# Altium schematic symbol library MCU ICs.SchLib: 13 symbols
Pins are listed as number, name and electrical type; pins without a type are passive.

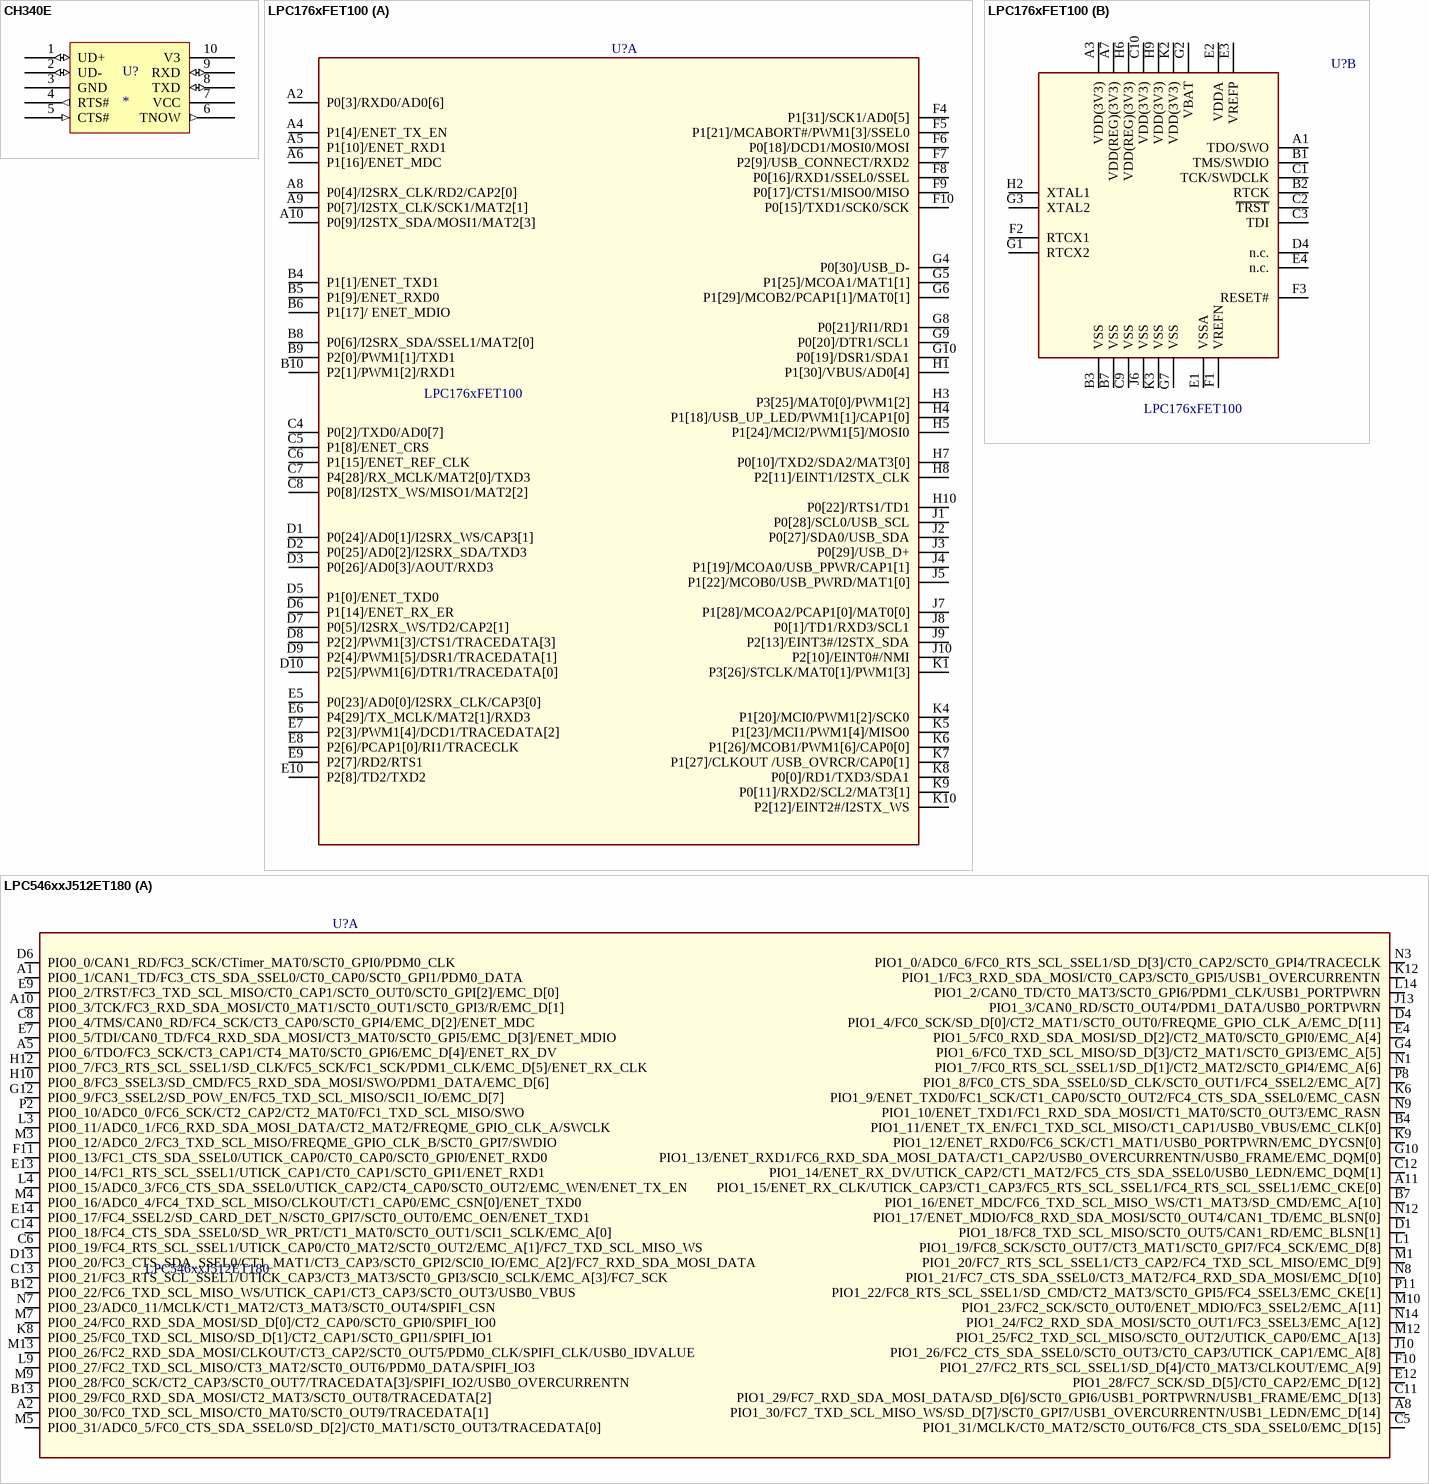
[diagram p0: symbols CH340E to LPC546xxJ512ET180]

## CH340E
designator U?
USB to Serial Port Chip CH340
footprint MSOP-10
pins: 1 UD+ (io), 2 UD- (io), 3 GND (power), 4 RTS# (out), 5 CTS# (in), 6 TNOW (out) "CH340T/E/X/B: Ongoing data transmission", 7 VCC (power), 8 TXD (io), 9 RXD (io), 10 V3 (power) "Connect to VCC when VCC is 3V3, connect"

## LPC176xFET100
designator U?
LPC176x , TFBGA-100 , Cortex-M3 , 256KB Flash; SWAP_INFO: (S1+S2); SPLIT_INST: TRUE
footprint TFBGA-100_9X9MM
part A pins: A2 P0[3]/RXD0/AD0[6], A4 P1[4]/ENET_TX_EN, A5 P1[10]/ENET_RXD1, A6 P1[16]/ENET_MDC, A8 P0[4]/I2SRX_CLK/RD2/CAP2[0], A9 P0[7]/I2STX_CLK/SCK1/MAT2[1], A10 P0[9]/I2STX_SDA/MOSI1/MAT2[3], B4 P1[1]/ENET_TXD1, B5 P1[9]/ENET_RXD0, B6 P1[17]/ ENET_MDIO, B8 P0[6]/I2SRX_SDA/SSEL1/MAT2[0], B9 P2[0]/PWM1[1]/TXD1, B10 P2[1]/PWM1[2]/RXD1, C4 P0[2]/TXD0/AD0[7], C5 P1[8]/ENET_CRS, C6 P1[15]/ENET_REF_CLK, C7 P4[28]/RX_MCLK/MAT2[0]/TXD3, C8 P0[8]/I2STX_WS/MISO1/MAT2[2], D1 P0[24]/AD0[1]/I2SRX_WS/CAP3[1], D2 P0[25]/AD0[2]/I2SRX_SDA/TXD3, D3 P0[26]/AD0[3]/AOUT/RXD3, D5 P1[0]/ENET_TXD0, D6 P1[14]/ENET_RX_ER, D7 P0[5]/I2SRX_WS/TD2/CAP2[1], D8 P2[2]/PWM1[3]/CTS1/TRACEDATA[3], D9 P2[4]/PWM1[5]/DSR1/TRACEDATA[1], D10 P2[5]/PWM1[6]/DTR1/TRACEDATA[0], E5 P0[23]/AD0[0]/I2SRX_CLK/CAP3[0], E6 P4[29]/TX_MCLK/MAT2[1]/RXD3, E7 P2[3]/PWM1[4]/DCD1/TRACEDATA[2], E8 P2[6]/PCAP1[0]/RI1/TRACECLK, E9 P2[7]/RD2/RTS1, E10 P2[8]/TD2/TXD2, F4 P1[31]/SCK1/AD0[5], F5 P1[21]/MCABORT#/PWM1[3]/SSEL0, F6 P0[18]/DCD1/MOSI0/MOSI, F7 P2[9]/USB_CONNECT/RXD2, F8 P0[16]/RXD1/SSEL0/SSEL, F9 P0[17]/CTS1/MISO0/MISO, F10 P0[15]/TXD1/SCK0/SCK, G4 P0[30]/USB_D-, G5 P1[25]/MCOA1/MAT1[1], G6 P1[29]/MCOB2/PCAP1[1]/MAT0[1], G8 P0[21]/RI1/RD1, G9 P0[20]/DTR1/SCL1, G10 P0[19]/DSR1/SDA1, H1 P1[30]/VBUS/AD0[4], H3 P3[25]/MAT0[0]/PWM1[2], H4 P1[18]/USB_UP_LED/PWM1[1]/CAP1[0], H5 P1[24]/MCI2/PWM1[5]/MOSI0, H7 P0[10]/TXD2/SDA2/MAT3[0], H8 P2[11]/EINT1/I2STX_CLK, H10 P0[22]/RTS1/TD1, J1 P0[28]/SCL0/USB_SCL, J2 P0[27]/SDA0/USB_SDA, J3 P0[29]/USB_D+, J4 P1[19]/MCOA0/USB_PPWR/CAP1[1], J5 P1[22]/MCOB0/USB_PWRD/MAT1[0], J7 P1[28]/MCOA2/PCAP1[0]/MAT0[0], J8 P0[1]/TD1/RXD3/SCL1, J9 P2[13]/EINT3#/I2STX_SDA, J10 P2[10]/EINT0#/NMI, K1 P3[26]/STCLK/MAT0[1]/PWM1[3], K4 P1[20]/MCI0/PWM1[2]/SCK0, K5 P1[23]/MCI1/PWM1[4]/MISO0, K6 P1[26]/MCOB1/PWM1[6]/CAP0[0], K7 P1[27]/CLKOUT /USB_OVRCR/CAP0[1], K8 P0[0]/RD1/TXD3/SDA1, K9 P0[11]/RXD2/SCL2/MAT3[1], K10 P2[12]/EINT2#/I2STX_WS
part B pins: A1 TDO/SWO, A3 VDD(3V3), A7 VDD(REG)(3V3), B1 TMS/SWDIO, B2 RTCK, B3 VSS, B7 VSS, C1 TCK/SWDCLK, C2 ~{TRST}, C3 TDI, C9 VSS, C10 VDD(3V3), D4 n.c., E1 VSSA, E2 VDDA, E3 VREFP, E4 n.c., F1 VREFN, F2 RTCX1, F3 RESET#, G1 RTCX2, G2 VBAT, G3 XTAL2, G7 VSS, H2 XTAL1, H6 VDD(REG)(3V3), H9 VDD(3V3), J6 VSS, K2 VDD(3V3), K3 VSS

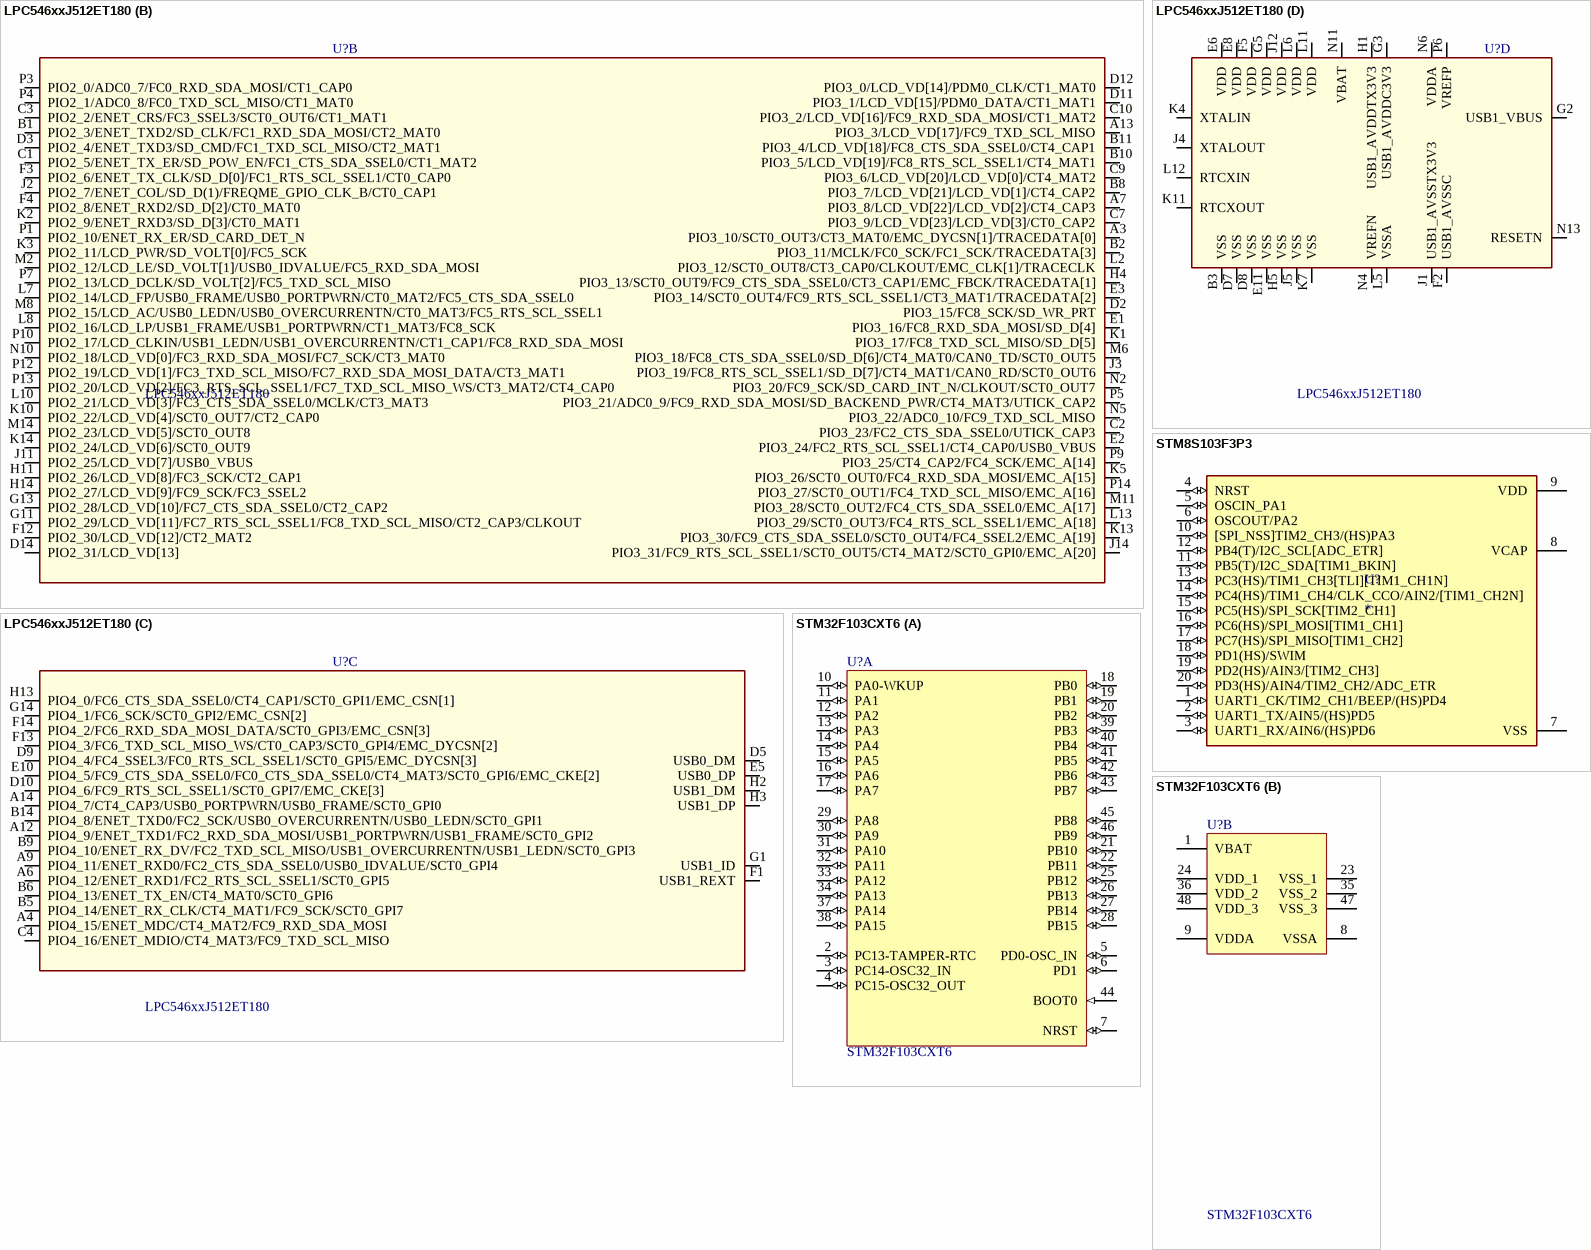
[diagram p1: symbols LPC546xxJ512ET180 to STM32F103CXT6]

## LPC546xxJ512ET180
designator U?
LPC546xx , TFBGA-180 , Cortex-M4 , 512KB Flash , LCD Controller , EMC; SWAP_INFO: (S1+S2); SPLIT_INST: TRUE
footprint TFBGA180_12X12_NXP
part A pins: A1 PIO0_1/CAN1_TD/FC3_CTS_SDA_SSEL0/CT0_CAP0/SCT0_GPI1/PDM0_DATA, A2 PIO0_30/FC0_TXD_SCL_MISO/CT0_MAT0/SCT0_OUT9/TRACEDATA[1], A5 PIO0_6/TDO/FC3_SCK/CT3_CAP1/CT4_MAT0/SCT0_GPI6/EMC_D[4]/ENET_RX_DV, A8 PIO1_30/FC7_TXD_SCL_MISO_WS/SD_D[7]/SCT0_GPI7/USB1_OVERCURRENTN/USB1_LEDN/EMC_D[14], A10 PIO0_3/TCK/FC3_RXD_SDA_MOSI/CT0_MAT1/SCT0_OUT1/SCT0_GPI3/R/EMC_D[1], A11 PIO1_15/ENET_RX_CLK/UTICK_CAP3/CT1_CAP3/FC5_RTS_SCL_SSEL1/FC4_RTS_SCL_SSEL1/EMC_CKE[0], B4 PIO1_11/ENET_TX_EN/FC1_TXD_SCL_MISO/CT1_CAP1/USB0_VBUS/EMC_CLK[0], B7 PIO1_16/ENET_MDC/FC6_TXD_SCL_MISO_WS/CT1_MAT3/SD_CMD/EMC_A[10], B12 PIO0_22/FC6_TXD_SCL_MISO_WS/UTICK_CAP1/CT3_CAP3/SCT0_OUT3/USB0_VBUS, B13 PIO0_29/FC0_RXD_SDA_MOSI/CT2_MAT3/SCT0_OUT8/TRACEDATA[2], C5 PIO1_31/MCLK/CT0_MAT2/SCT0_OUT6/FC8_CTS_SDA_SSEL0/EMC_D[15], C6 PIO0_19/FC4_RTS_SCL_SSEL1/UTICK_CAP0/CT0_MAT2/SCT0_OUT2/EMC_A[1]/FC7_TXD_SCL_MISO_WS, C8 PIO0_4/TMS/CAN0_RD/FC4_SCK/CT3_CAP0/SCT0_GPI4/EMC_D[2]/ENET_MDC, C11 PIO1_29/FC7_RXD_SDA_MOSI_DATA/SD_D[6]/SCT0_GPI6/USB1_PORTPWRN/USB1_FRAME/EMC_D[13], C12 PIO1_14/ENET_RX_DV/UTICK_CAP2/CT1_MAT2/FC5_CTS_SDA_SSEL0/USB0_LEDN/EMC_DQM[1], C13 PIO0_21/FC3_RTS_SCL_SSEL1/UTICK_CAP3/CT3_MAT3/SCT0_GPI3/SCI0_SCLK/EMC_A[3]/FC7_SCK, C14 PIO0_18/FC4_CTS_SDA_SSEL0/SD_WR_PRT/CT1_MAT0/SCT0_OUT1/SCI1_SCLK/EMC_A[0], D1 PIO1_18/FC8_TXD_SCL_MISO/SCT0_OUT5/CAN1_RD/EMC_BLSN[1], D4 PIO1_4/FC0_SCK/SD_D[0]/CT2_MAT1/SCT0_OUT0/FREQME_GPIO_CLK_A/EMC_D[11], D6 PIO0_0/CAN1_RD/FC3_SCK/CTimer_MAT0/SCT0_GPI0/PDM0_CLK, D13 PIO0_20/FC3_CTS_SDA_SSEL0/CT1_MAT1/CT3_CAP3/SCT0_GPI2/SCI0_IO/EMC_A[2]/FC7_RXD_SDA_MOSI_DATA, E4 PIO1_5/FC0_RXD_SDA_MOSI/SD_D[2]/CT2_MAT0/SCT0_GPI0/EMC_A[4], E7 PIO0_5/TDI/CAN0_TD/FC4_RXD_SDA_MOSI/CT3_MAT0/SCT0_GPI5/EMC_D[3]/ENET_MDIO, E9 PIO0_2/TRST/FC3_TXD_SCL_MISO/CT0_CAP1/SCT0_OUT0/SCT0_GPI[2]/EMC_D[0], E12 PIO1_28/FC7_SCK/SD_D[5]/CT0_CAP2/EMC_D[12], E13 PIO0_14/FC1_RTS_SCL_SSEL1/UTICK_CAP1/CT0_CAP1/SCT0_GPI1/ENET_RXD1, E14 PIO0_17/FC4_SSEL2/SD_CARD_DET_N/SCT0_GPI7/SCT0_OUT0/EMC_OEN/ENET_TXD1, F10 PIO1_27/FC2_RTS_SCL_SSEL1/SD_D[4]/CT0_MAT3/CLKOUT/EMC_A[9], F11 PIO0_13/FC1_CTS_SDA_SSEL0/UTICK_CAP0/CT0_CAP0/SCT0_GPI0/ENET_RXD0, G4 PIO1_6/FC0_TXD_SCL_MISO/SD_D[3]/CT2_MAT1/SCT0_GPI3/EMC_A[5], G10 PIO1_13/ENET_RXD1/FC6_RXD_SDA_MOSI_DATA/CT1_CAP2/USB0_OVERCURRENTN/USB0_FRAME/EMC_DQM[0], G12 PIO0_9/FC3_SSEL2/SD_POW_EN/FC5_TXD_SCL_MISO/SCI1_IO/EMC_D[7], H10 PIO0_8/FC3_SSEL3/SD_CMD/FC5_RXD_SDA_MOSI/SWO/PDM1_DATA/EMC_D[6], H12 PIO0_7/FC3_RTS_SCL_SSEL1/SD_CLK/FC5_SCK/FC1_SCK/PDM1_CLK/EMC_D[5]/ENET_RX_CLK, J10 PIO1_26/FC2_CTS_SDA_SSEL0/SCT0_OUT3/CT0_CAP3/UTICK_CAP1/EMC_A[8], J13 PIO1_3/CAN0_RD/SCT0_OUT4/PDM1_DATA/USB0_PORTPWRN, K6 PIO1_9/ENET_TXD0/FC1_SCK/CT1_CAP0/SCT0_OUT2/FC4_CTS_SDA_SSEL0/EMC_CASN, K8 PIO0_25/FC0_TXD_SCL_MISO/SD_D[1]/CT2_CAP1/SCT0_GPI1/SPIFI_IO1, K9 PIO1_12/ENET_RXD0/FC6_SCK/CT1_MAT1/USB0_PORTPWRN/EMC_DYCSN[0], K12 PIO1_1/FC3_RXD_SDA_MOSI/CT0_CAP3/SCT0_GPI5/USB1_OVERCURRENTN, L1 PIO1_19/FC8_SCK/SCT0_OUT7/CT3_MAT1/SCT0_GPI7/FC4_SCK/EMC_D[8], L3 PIO0_11/ADC0_1/FC6_RXD_SDA_MOSI_DATA/CT2_MAT2/FREQME_GPIO_CLK_A/SWCLK, L4 PIO0_15/ADC0_3/FC6_CTS_SDA_SSEL0/UTICK_CAP2/CT4_CAP0/SCT0_OUT2/EMC_WEN/ENET_TX_EN, L9 PIO0_27/FC2_TXD_SCL_MISO/CT3_MAT2/SCT0_OUT6/PDM0_DATA/SPIFI_IO3, L14 PIO1_2/CAN0_TD/CT0_MAT3/SCT0_GPI6/PDM1_CLK/USB1_PORTPWRN, M1 PIO1_20/FC7_RTS_SCL_SSEL1/CT3_CAP2/FC4_TXD_SCL_MISO/EMC_D[9], M3 PIO0_12/ADC0_2/FC3_TXD_SCL_MISO/FREQME_GPIO_CLK_B/SCT0_GPI7/SWDIO, M4 PIO0_16/ADC0_4/FC4_TXD_SCL_MISO/CLKOUT/CT1_CAP0/EMC_CSN[0]/ENET_TXD0, M5 PIO0_31/ADC0_5/FC0_CTS_SDA_SSEL0/SD_D[2]/CT0_MAT1/SCT0_OUT3/TRACEDATA[0], M7 PIO0_24/FC0_RXD_SDA_MOSI/SD_D[0]/CT2_CAP0/SCT0_GPI0/SPIFI_IO0, M9 PIO0_28/FC0_SCK/CT2_CAP3/SCT0_OUT7/TRACEDATA[3]/SPIFI_IO2/USB0_OVERCURRENTN, M10 PIO1_23/FC2_SCK/SCT0_OUT0/ENET_MDIO/FC3_SSEL2/EMC_A[11], M12 PIO1_25/FC2_TXD_SCL_MISO/SCT0_OUT2/UTICK_CAP0/EMC_A[13], M13 PIO0_26/FC2_RXD_SDA_MOSI/CLKOUT/CT3_CAP2/SCT0_OUT5/PDM0_CLK/SPIFI_CLK/USB0_IDVALUE, N1 PIO1_7/FC0_RTS_SCL_SSEL1/SD_D[1]/CT2_MAT2/SCT0_GPI4/EMC_A[6], N3 PIO1_0/ADC0_6/FC0_RTS_SCL_SSEL1/SD_D[3]/CT0_CAP2/SCT0_GPI4/TRACECLK, N7 PIO0_23/ADC0_11/MCLK/CT1_MAT2/CT3_MAT3/SCT0_OUT4/SPIFI_CSN, N8 PIO1_21/FC7_CTS_SDA_SSEL0/CT3_MAT2/FC4_RXD_SDA_MOSI/EMC_D[10], N9 PIO1_10/ENET_TXD1/FC1_RXD_SDA_MOSI/CT1_MAT0/SCT0_OUT3/EMC_RASN, N12 PIO1_17/ENET_MDIO/FC8_RXD_SDA_MOSI/SCT0_OUT4/CAN1_TD/EMC_BLSN[0], N14 PIO1_24/FC2_RXD_SDA_MOSI/SCT0_OUT1/FC3_SSEL3/EMC_A[12], P2 PIO0_10/ADC0_0/FC6_SCK/CT2_CAP2/CT2_MAT0/FC1_TXD_SCL_MISO/SWO, P8 PIO1_8/FC0_CTS_SDA_SSEL0/SD_CLK/SCT0_OUT1/FC4_SSEL2/EMC_A[7], P11 PIO1_22/FC8_RTS_SCL_SSEL1/SD_CMD/CT2_MAT3/SCT0_GPI5/FC4_SSEL3/EMC_CKE[1]
part B pins: A3 PIO3_10/SCT0_OUT3/CT3_MAT0/EMC_DYCSN[1]/TRACEDATA[0], A7 PIO3_8/LCD_VD[22]/LCD_VD[2]/CT4_CAP3, A13 PIO3_3/LCD_VD[17]/FC9_TXD_SCL_MISO, B1 PIO2_3/ENET_TXD2/SD_CLK/FC1_RXD_SDA_MOSI/CT2_MAT0, B2 PIO3_11/MCLK/FC0_SCK/FC1_SCK/TRACEDATA[3], B8 PIO3_7/LCD_VD[21]/LCD_VD[1]/CT4_CAP2, B10 PIO3_5/LCD_VD[19]/FC8_RTS_SCL_SSEL1/CT4_MAT1, B11 PIO3_4/LCD_VD[18]/FC8_CTS_SDA_SSEL0/CT4_CAP1, C1 PIO2_5/ENET_TX_ER/SD_POW_EN/FC1_CTS_SDA_SSEL0/CT1_MAT2, C2 PIO3_23/FC2_CTS_SDA_SSEL0/UTICK_CAP3, C3 PIO2_2/ENET_CRS/FC3_SSEL3/SCT0_OUT6/CT1_MAT1, C7 PIO3_9/LCD_VD[23]/LCD_VD[3]/CT0_CAP2, C9 PIO3_6/LCD_VD[20]/LCD_VD[0]/CT4_MAT2, C10 PIO3_2/LCD_VD[16]/FC9_RXD_SDA_MOSI/CT1_MAT2, D2 PIO3_15/FC8_SCK/SD_WR_PRT, D3 PIO2_4/ENET_TXD3/SD_CMD/FC1_TXD_SCL_MISO/CT2_MAT1, D11 PIO3_1/LCD_VD[15]/PDM0_DATA/CT1_MAT1, D12 PIO3_0/LCD_VD[14]/PDM0_CLK/CT1_MAT0, D14 PIO2_31/LCD_VD[13], E1 PIO3_16/FC8_RXD_SDA_MOSI/SD_D[4], E2 PIO3_24/FC2_RTS_SCL_SSEL1/CT4_CAP0/USB0_VBUS, E3 PIO3_14/SCT0_OUT4/FC9_RTS_SCL_SSEL1/CT3_MAT1/TRACEDATA[2], F3 PIO2_6/ENET_TX_CLK/SD_D[0]/FC1_RTS_SCL_SSEL1/CT0_CAP0, F4 PIO2_8/ENET_RXD2/SD_D[2]/CT0_MAT0, F12 PIO2_30/LCD_VD[12]/CT2_MAT2, G11 PIO2_29/LCD_VD[11]/FC7_RTS_SCL_SSEL1/FC8_TXD_SCL_MISO/CT2_CAP3/CLKOUT, G13 PIO2_28/LCD_VD[10]/FC7_CTS_SDA_SSEL0/CT2_CAP2, H4 PIO3_13/SCT0_OUT9/FC9_CTS_SDA_SSEL0/CT3_CAP1/EMC_FBCK/TRACEDATA[1], H11 PIO2_26/LCD_VD[8]/FC3_SCK/CT2_CAP1, H14 PIO2_27/LCD_VD[9]/FC9_SCK/FC3_SSEL2, J2 PIO2_7/ENET_COL/SD_D(1)/FREQME_GPIO_CLK_B/CT0_CAP1, J3 PIO3_19/FC8_RTS_SCL_SSEL1/SD_D[7]/CT4_MAT1/CAN0_RD/SCT0_OUT6, J11 PIO2_25/LCD_VD[7]/USB0_VBUS, J14 PIO3_31/FC9_RTS_SCL_SSEL1/SCT0_OUT5/CT4_MAT2/SCT0_GPI0/EMC_A[20], K1 PIO3_17/FC8_TXD_SCL_MISO/SD_D[5], K2 PIO2_9/ENET_RXD3/SD_D[3]/CT0_MAT1, K3 PIO2_11/LCD_PWR/SD_VOLT[0]/FC5_SCK, K5 PIO3_26/SCT0_OUT0/FC4_RXD_SDA_MOSI/EMC_A[15], K10 PIO2_22/LCD_VD[4]/SCT0_OUT7/CT2_CAP0, K13 PIO3_30/FC9_CTS_SDA_SSEL0/SCT0_OUT4/FC4_SSEL2/EMC_A[19], K14 PIO2_24/LCD_VD[6]/SCT0_OUT9, L2 PIO3_12/SCT0_OUT8/CT3_CAP0/CLKOUT/EMC_CLK[1]/TRACECLK, L7 PIO2_14/LCD_FP/USB0_FRAME/USB0_PORTPWRN/CT0_MAT2/FC5_CTS_SDA_SSEL0, L8 PIO2_16/LCD_LP/USB1_FRAME/USB1_PORTPWRN/CT1_MAT3/FC8_SCK, L10 PIO2_21/LCD_VD[3]/FC3_CTS_SDA_SSEL0/MCLK/CT3_MAT3, L13 PIO3_29/SCT0_OUT3/FC4_RTS_SCL_SSEL1/EMC_A[18], M2 PIO2_12/LCD_LE/SD_VOLT[1]/USB0_IDVALUE/FC5_RXD_SDA_MOSI, M6 PIO3_18/FC8_CTS_SDA_SSEL0/SD_D[6]/CT4_MAT0/CAN0_TD/SCT0_OUT5, M8 PIO2_15/LCD_AC/USB0_LEDN/USB0_OVERCURRENTN/CT0_MAT3/FC5_RTS_SCL_SSEL1, M11 PIO3_28/SCT0_OUT2/FC4_CTS_SDA_SSEL0/EMC_A[17], M14 PIO2_23/LCD_VD[5]/SCT0_OUT8, N2 PIO3_20/FC9_SCK/SD_CARD_INT_N/CLKOUT/SCT0_OUT7, N5 PIO3_22/ADC0_10/FC9_TXD_SCL_MISO, N10 PIO2_18/LCD_VD[0]/FC3_RXD_SDA_MOSI/FC7_SCK/CT3_MAT0, P1 PIO2_10/ENET_RX_ER/SD_CARD_DET_N, P3 PIO2_0/ADC0_7/FC0_RXD_SDA_MOSI/CT1_CAP0, P4 PIO2_1/ADC0_8/FC0_TXD_SCL_MISO/CT1_MAT0, P5 PIO3_21/ADC0_9/FC9_RXD_SDA_MOSI/SD_BACKEND_PWR/CT4_MAT3/UTICK_CAP2, P7 PIO2_13/LCD_DCLK/SD_VOLT[2]/FC5_TXD_SCL_MISO, P9 PIO3_25/CT4_CAP2/FC4_SCK/EMC_A[14], P10 PIO2_17/LCD_CLKIN/USB1_LEDN/USB1_OVERCURRENTN/CT1_CAP1/FC8_RXD_SDA_MOSI, P12 PIO2_19/LCD_VD[1]/FC3_TXD_SCL_MISO/FC7_RXD_SDA_MOSI_DATA/CT3_MAT1, P13 PIO2_20/LCD_VD[2]/FC3_RTS_SCL_SSEL1/FC7_TXD_SCL_MISO_WS/CT3_MAT2/CT4_CAP0, P14 PIO3_27/SCT0_OUT1/FC4_TXD_SCL_MISO/EMC_A[16]
part C pins: A4 PIO4_15/ENET_MDC/CT4_MAT2/FC9_RXD_SDA_MOSI, A6 PIO4_12/ENET_RXD1/FC2_RTS_SCL_SSEL1/SCT0_GPI5, A9 PIO4_11/ENET_RXD0/FC2_CTS_SDA_SSEL0/USB0_IDVALUE/SCT0_GPI4, A12 PIO4_9/ENET_TXD1/FC2_RXD_SDA_MOSI/USB1_PORTPWRN/USB1_FRAME/SCT0_GPI2, A14 PIO4_7/CT4_CAP3/USB0_PORTPWRN/USB0_FRAME/SCT0_GPI0, B5 PIO4_14/ENET_RX_CLK/CT4_MAT1/FC9_SCK/SCT0_GPI7, B6 PIO4_13/ENET_TX_EN/CT4_MAT0/SCT0_GPI6, B9 PIO4_10/ENET_RX_DV/FC2_TXD_SCL_MISO/USB1_OVERCURRENTN/USB1_LEDN/SCT0_GPI3, B14 PIO4_8/ENET_TXD0/FC2_SCK/USB0_OVERCURRENTN/USB0_LEDN/SCT0_GPI1, C4 PIO4_16/ENET_MDIO/CT4_MAT3/FC9_TXD_SCL_MISO, D5 USB0_DM, D9 PIO4_4/FC4_SSEL3/FC0_RTS_SCL_SSEL1/SCT0_GPI5/EMC_DYCSN[3], D10 PIO4_6/FC9_RTS_SCL_SSEL1/SCT0_GPI7/EMC_CKE[3], E5 USB0_DP, E10 PIO4_5/FC9_CTS_SDA_SSEL0/FC0_CTS_SDA_SSEL0/CT4_MAT3/SCT0_GPI6/EMC_CKE[2], F1 USB1_REXT, F13 PIO4_3/FC6_TXD_SCL_MISO_WS/CT0_CAP3/SCT0_GPI4/EMC_DYCSN[2], F14 PIO4_2/FC6_RXD_SDA_MOSI_DATA/SCT0_GPI3/EMC_CSN[3], G1 USB1_ID, G14 PIO4_1/FC6_SCK/SCT0_GPI2/EMC_CSN[2], H2 USB1_DM, H3 USB1_DP, H13 PIO4_0/FC6_CTS_SDA_SSEL0/CT4_CAP1/SCT0_GPI1/EMC_CSN[1]
part D pins: B3 VSS, D7 VSS, D8 VSS, E6 VDD, E8 VDD, E11 VSS, F2 USB1_AVSSC, F5 VDD, G2 USB1_VBUS, G3 USB1_AVDDC3V3, G5 VDD, H1 USB1_AVDDTX3V3, H5 VSS, J1 USB1_AVSSTX3V3, J4 XTALOUT, J5 VSS, J12 VDD, K4 XTALIN, K7 VSS, K11 RTCXOUT, L5 VSSA, L6 VDD, L11 VDD, L12 RTCXIN, N4 VREFN, N6 VDDA, N11 VBAT, N13 RESETN, P6 VREFP

## STM8S103F3P3
designator U?
STM8 STM8S Microcontroller IC 8-Bit 16MHz 8KB _8K x 8_ FLASH 20-TSSOP; MF: STMicroelectronics; MP: STM8S103F3P3; Package: TSSOP-20 STMicroelectronics; Price: None; Availability: Unavailable; SnapEDA_Link: https://www.snapeda.com/parts/STM8S103F3P3/STMicroelectronics/view-part/443750/?ref=snap; Value: *
footprint SOP65P640X120-20N
pins: 1 UART1_CK/TIM2_CH1/BEEP/(HS)PD4 (io), 2 UART1_TX/AIN5/(HS)PD5 (io), 3 UART1_RX/AIN6/(HS)PD6 (io), 4 NRST (io), 5 OSCIN_PA1 (io), 6 OSCOUT/PA2 (io), 7 VSS (power), 8 VCAP, 9 VDD (power), 10 [SPI_NSS]TIM2_CH3/(HS)PA3 (io), 11 PB5(T)/I2C_SDA[TIM1_BKIN] (io), 12 PB4(T)/I2C_SCL[ADC_ETR] (io), 13 PC3(HS)/TIM1_CH3[TLI][TIM1_CH1N] (io), 14 PC4(HS)/TIM1_CH4/CLK_CCO/AIN2/[TIM1_CH2N] (io), 15 PC5(HS)/SPI_SCK[TIM2_CH1] (io), 16 PC6(HS)/SPI_MOSI[TIM1_CH1] (io), 17 PC7(HS)/SPI_MISO[TIM1_CH2] (io), 18 PD1(HS)/SWIM (io), 19 PD2(HS)/AIN3/[TIM2_CH3] (io), 20 PD3(HS)/AIN4/TIM2_CH2/ADC_ETR (io)

## STM32F103CXT6
designator U?
STM32F103CXT6 Microcontroller.; DatasheetVersion: rev13.0, Apr-2011; PackageVersion: rev13, Apr-2011; PackageReference: LQFP48; PackageDescription: 48-Pin Low-Profile Quad Flat Pack, 7 x 7 mm Body, 0.5 mm Pitch (LQFP48); ComponentLink1Description: Manufacturer URL; ComponentLink1URL: http://www.st.com/; ComponentLink2Description: STM32F103 Datasheet; ComponentLink2URL: http://www.st.com/internet/com/TECHNICAL_RESOURCES/TECHNICAL_LITERATURE/DATASHEET/CD00161566.pdf; ComponentLink3Description: STM32 Family Web Page; ComponentLink3URL: www.st.com/stm32
footprint LQFP-48
part A pins: 2 PC13-TAMPER-RTC (io), 3 PC14-OSC32_IN (io), 4 PC15-OSC32_OUT (io), 5 PD0-OSC_IN (io), 6 PD1 (io), 7 NRST (io), 10 PA0-WKUP (io), 11 PA1 (io), 12 PA2 (io), 13 PA3 (io), 14 PA4 (io), 15 PA5 (io), 16 PA6 (io), 17 PA7 (io), 18 PB0 (io), 19 PB1 (io), 20 PB2 (io), 21 PB10 (io), 22 PB11 (io), 25 PB12 (io), 26 PB13 (io), 27 PB14 (io), 28 PB15 (io), 29 PA8 (io), 30 PA9 (io), 31 PA10 (io), 32 PA11 (io), 33 PA12 (io), 34 PA13 (io), 37 PA14 (io), 38 PA15 (io), 39 PB3 (io), 40 PB4 (io), 41 PB5 (io), 42 PB6 (io), 43 PB7 (io), 44 BOOT0 (in), 45 PB8 (io), 46 PB9 (io)
part B pins: 1 VBAT (power), 8 VSSA (power), 9 VDDA (power), 23 VSS_1 (power), 24 VDD_1 (power), 35 VSS_2 (power), 36 VDD_2 (power), 47 VSS_3 (power), 48 VDD_3 (power)

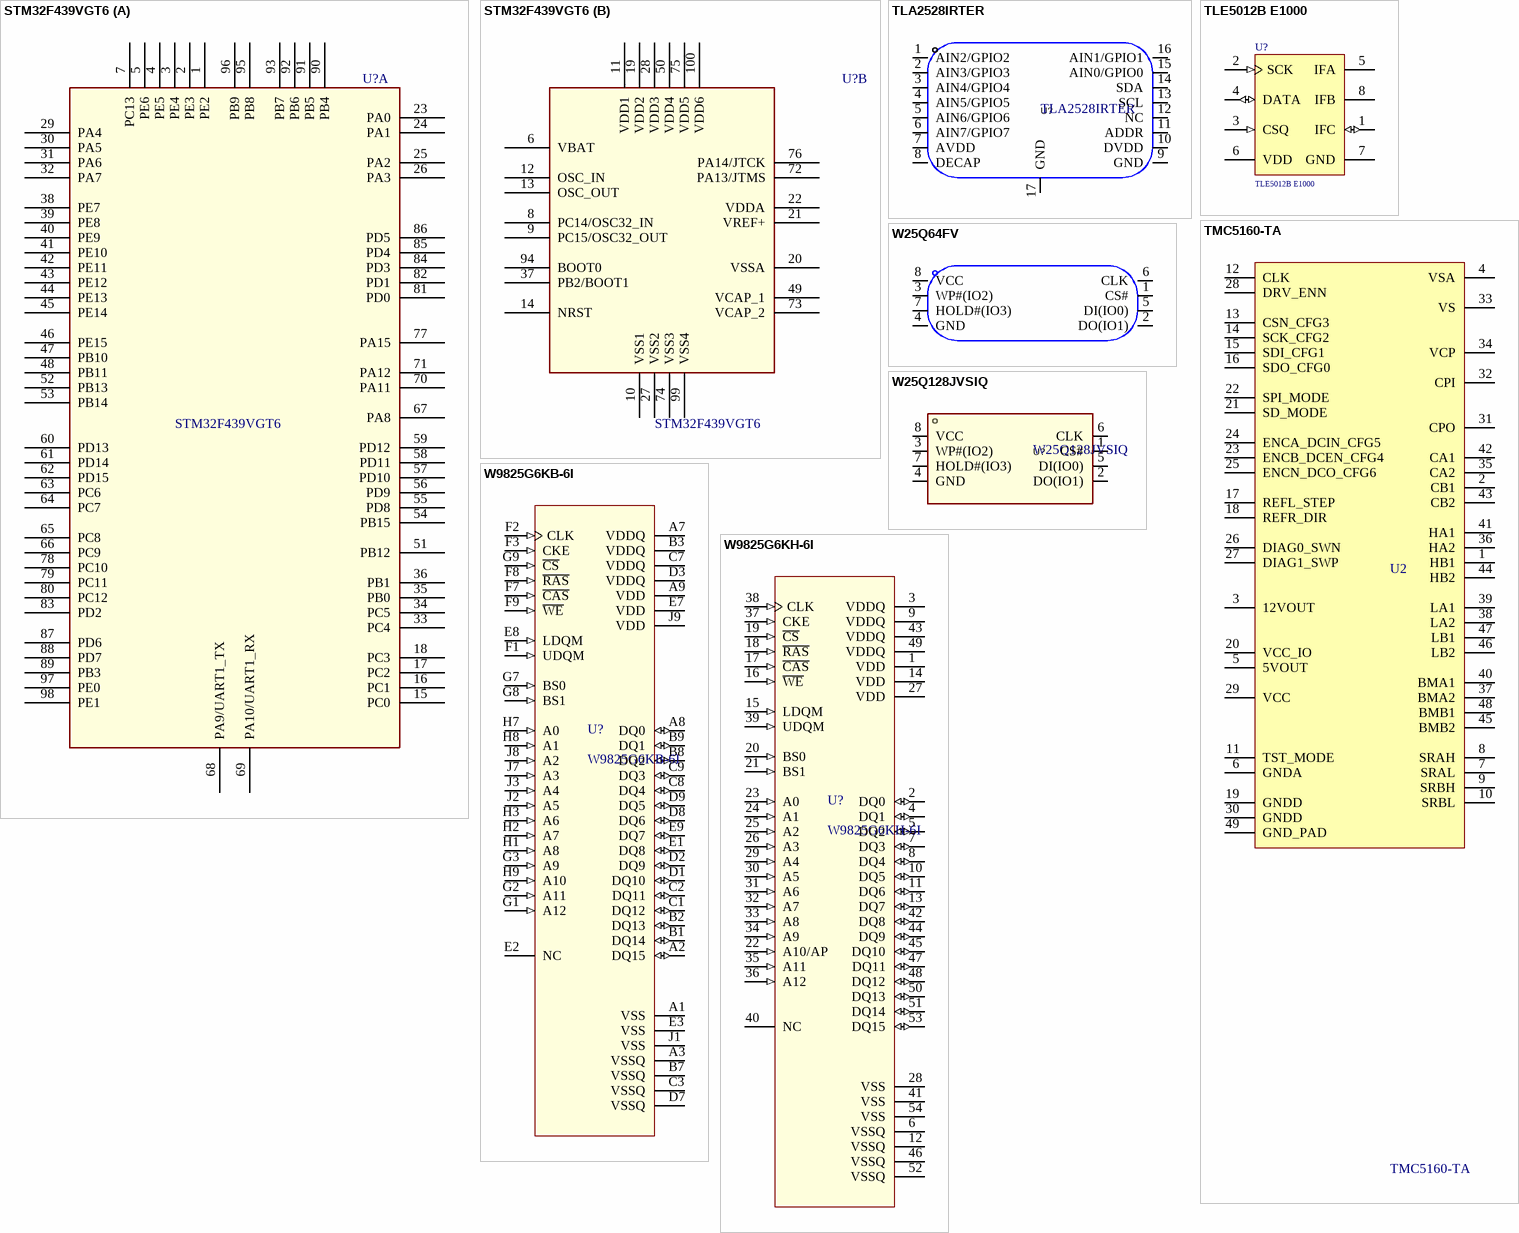
[diagram p2: symbols STM32F439VGT6 to W9825G6KH-6I]

## STM32F439VGT6
designator U?
STM32F42/39; SWAP_INFO: (S1+S2); SPLIT_INST: TRUE
footprint LQFP_100
part A pins: 1 PE2, 2 PE3, 3 PE4, 4 PE5, 5 PE6, 7 PC13, 15 PC0, 16 PC1, 17 PC2, 18 PC3, 23 PA0, 24 PA1, 25 PA2, 26 PA3, 29 PA4, 30 PA5, 31 PA6, 32 PA7, 33 PC4, 34 PC5, 35 PB0, 36 PB1, 38 PE7, 39 PE8, 40 PE9, 41 PE10, 42 PE11, 43 PE12, 44 PE13, 45 PE14, 46 PE15, 47 PB10, 48 PB11, 51 PB12, 52 PB13, 53 PB14, 54 PB15, 55 PD8, 56 PD9, 57 PD10, 58 PD11, 59 PD12, 60 PD13, 61 PD14, 62 PD15, 63 PC6, 64 PC7, 65 PC8, 66 PC9, 67 PA8, 68 PA9/UART1_TX, 69 PA10/UART1_RX, 70 PA11, 71 PA12, 77 PA15, 78 PC10, 79 PC11, 80 PC12, 81 PD0, 82 PD1, 83 PD2, 84 PD3, 85 PD4, 86 PD5, 87 PD6, 88 PD7, 89 PB3, 90 PB4, 91 PB5, 92 PB6, 93 PB7, 95 PB8, 96 PB9, 97 PE0, 98 PE1
part B pins: 6 VBAT, 8 PC14/OSC32_IN, 9 PC15/OSC32_OUT, 10 VSS1, 11 VDD1, 12 OSC_IN, 13 OSC_OUT, 14 NRST, 19 VDD2, 20 VSSA, 21 VREF+, 22 VDDA, 27 VSS2, 28 VDD3, 37 PB2/BOOT1, 49 VCAP_1, 50 VDD4, 72 PA13/JTMS, 73 VCAP_2, 74 VSS3, 75 VDD5, 76 PA14/JTCK, 94 BOOT0, 99 VSS4, 100 VDD6

## TLA2528IRTER
designator U?
ADC/GPIO to I2C Converter IC. / 8-Channel, 12-Bit ADC With I / 2C Interface and GPIOs; Manufacturer: TI(德州仪器); Add into BOM: yes; number of channels: 8; Supply Voltage: 2.35V~5.5V; resolution: 12位; Symbol: TLA2528IRTER; Device: TLA2528IRTER; LCSC Part Name: TLA2528IRTER; Supplier Part: C2866175; Manufacturer Part: TLA2528IRTER; Supplier Footprint: WQFN-16-EP(3x3); JLCPCB Part Class: Extended Part; Datasheet: https://www.ti.com/cn/lit/gpn/tla2528; Supplier: LCSC; Convert to PCB: yes; Interface: I2C; Operating Temperature: -40℃~+85℃
footprint WQFN-16
pins: 1 AIN2/GPIO2, 2 AIN3/GPIO3, 3 AIN4/GPIO4, 4 AIN5/GPIO5, 5 AIN6/GPIO6, 6 AIN7/GPIO7, 7 AVDD, 8 DECAP, 9 GND, 10 DVDD, 11 ADDR, 12 NC, 13 SCL, 14 SDA, 15 AIN0/GPIO0, 16 AIN1/GPIO1, 17 GND

## TLE5012B E1000
designator U?
Magnetic angle sensor for steering angle measurement.; Manufacturer: Infineon; Green: TRUE; Interface: SPI, IIF; Packing: Reel; DatasheetVersion: Rev. 1.1; PackageVersion: Mar-07; PackageReference: PG-DSO-8-16; PackageDescription: 8-Pin Plastic (Green) Dual Small Outline Package, 4.9 x 3.9 mm Body, 1.27 mm Pitch; Supplier 1: Mouser; Supplier Part Number 1: 726-TLE5012BE1000; Halogen-free: available; Mounting Technology: Surface Mount; PartNumber: TLE5012B E1000; ComponentLink1Description: Manufacturer URL; ComponentLink1URL: http://www.infineon.com/; ComponentLink2Description: Datasheet; ComponentLink2URL: http://www.infineon.com/dgdl/TLE5012B_FDS_Rev1+1.pdf?folderId=db3a30431ce5fb52011d3dd6e8012582&fileId=db3a304334fac4c601350f31c43c433f; ComponentLink3Description: Package Specification; ComponentLink3URL: http://www.infineon.com/dgdl/TLE7259-2GE_DS_rev12.pdf?folderId=db3a3043163797a6011666d32a0c0de1&fileId=db3a3043163797a6011666d4dbb80de2&location=en.Products.Automotive_ICs.Automotive_Transceivers.LIN_Transceivers.DATASHEET.TLE7259-2GE_DS_rev12.pdf
footprint SOIC-8
pins: 1 IFC (io) "Interface C: External Clock / IIF Index / Hall Switch  Signal 3", 2 SCK (in) "SSC Clock", 3 CSQ (in) "SSC Chip Select", 4 DATA (io) "SSC Data", 5 IFA (oc) "Interface A:  IIF Phase A / Hall Switch Signal 1 /  PWM / SPC output", 6 VDD (power) "Supply Voltage", 7 GND (power) "Ground", 8 IFB (oc) "Interface B: IIF Phase B / Hall Switch Signal 2"

## TMC5160-TA
designator U2
Stepper motor driver, 8-60V, For external N-FETs.; Manufacturer: TRINAMIC; Geometry.Height: 1,2mm; Distributor#1: Digikey; Distributor#2: *; MPN: TMC5160-TA; MF: TRINAMIC
footprint eTQFP48-7x7mm (TSQFP, 48-Leads, Body 7,00x7,00mm, Pitch 0,50mm, Thermal Pad 5,10x5,10mm, IPC High Density)
pins: 1 HB1, 2 CB1, 3 12VOUT, 4 VSA, 5 5VOUT, 6 GNDA, 7 SRAL, 8 SRAH, 9 SRBH, 10 SRBL, 11 TST_MODE, 12 CLK, 13 CSN_CFG3, 14 SCK_CFG2, 15 SDI_CFG1, 16 SDO_CFG0, 17 REFL_STEP, 18 REFR_DIR, 19 GNDD, 20 VCC_IO, 21 SD_MODE, 22 SPI_MODE, 23 ENCB_DCEN_CFG4, 24 ENCA_DCIN_CFG5, 25 ENCN_DCO_CFG6, 26 DIAG0_SWN, 27 DIAG1_SWP, 28 DRV_ENN, 29 VCC, 30 GNDD, 31 CPO, 32 CPI, 33 VS, 34 VCP, 35 CA2, 36 HA2, 37 BMA2, 38 LA2, 39 LA1, 40 BMA1, 41 HA1, 42 CA1, 43 CB2, 44 HB2, 45 BMB2, 46 LB2, 47 LB1, 48 BMB1, 49 GND_PAD

## W25Q64FV
designator U?, comment W25Q64FVSSIQ  (value not drawn)
Winbond 64Mbit SPI Flash.; Manufacturer: WINBOND(华邦); Add into BOM: yes; Symbol: W25Q64FVSSIQ; Device: W25Q64FVSSIQ; LCSC Part Name: W25Q64FVSSIQ; Supplier Part: C2943203; Manufacturer Part: W25Q64FVSSIQ; Supplier Footprint: SOIC-8-208mil; JLCPCB Part Class: Extended Part; Datasheet: https://atta.szlcsc.com/upload/public/pdf/source/20220124/B586DF8D2E26F9242C002B2D869830EA.pdf; Supplier: LCSC; Convert to PCB: yes
footprint SOIC-8
pins: 1 CS#, 2 DO(IO1), 3 WP#(IO2), 4 GND, 5 DI(IO0), 6 CLK, 7 HOLD#(IO3), 8 VCC

## W25Q128JVSIQ
designator U?
Winbond 128Mbit SPI Flash.; Manufacturer: WINBOND(华邦); Symbol: W25Q64FVSSIQ; Add into BOM: yes; Device: W25Q64FVSSIQ; LCSC Part Name: W25Q64FVSSIQ; Supplier Part: C2943203; Manufacturer Part: W25Q64FVSSIQ; Supplier Footprint: SOIC-8-208mil; JLCPCB Part Class: Extended Part; Datasheet: https://atta.szlcsc.com/upload/public/pdf/source/20220124/B586DF8D2E26F9242C002B2D869830EA.pdf; Supplier: LCSC; Convert to PCB: yes
footprint SOIC-8
pins: 1 CS#, 2 DO(IO1), 3 WP#(IO2), 4 GND, 5 DI(IO0), 6 CLK, 7 HOLD#(IO3), 8 VCC

## W9825G6KB-6I
designator U?
SDRAM Memory IC 256Mb (4Banks * 4M x 16) Parallel 166 MHz  54-TFBGA (8x8) -6I : -40℃ - 80℃; MF: Winbond; Package: TFBGA-54; Price: None; Value: *
footprint TFBGA-54
pins: A1 VSS (power), A2 DQ15 (io), A3 VSSQ (power), A7 VDDQ (power), A8 DQ0 (io), A9 VDD (power), B1 DQ14 (io), B2 DQ13 (io), B3 VDDQ (power), B7 VSSQ (power), B8 DQ2 (io), B9 DQ1 (io), C1 DQ12 (io), C2 DQ11 (io), C3 VSSQ (power), C7 VDDQ (power), C8 DQ4 (io), C9 DQ3 (io), D1 DQ10 (io), D2 DQ9 (io), D3 VDDQ (power), D7 VSSQ (power), D8 DQ6 (io), D9 DQ5 (io), E1 DQ8 (io), E2 NC, E3 VSS (power), E7 VDD (power), E8 LDQM (in), E9 DQ7 (io), F1 UDQM (in), F2 CLK (in), F3 CKE (in), F7 ~{CAS} (in), F8 ~{RAS} (in), F9 ~{WE} (in), G1 A12 (in), G2 A11 (in), G3 A9 (in), G7 BS0 (in), G8 BS1 (in), G9 ~{CS} (in), H1 A8 (in), H2 A7 (in), H3 A6 (in), H7 A0 (in), H8 A1 (in), H9 A10 (in), J1 VSS (power), J2 A5 (in), J3 A4 (in), J7 A3 (in), J8 A2 (in), J9 VDD (power)

## W9825G6KH-6I
designator U?
SDRAM Memory IC 256Mb (4Banks * 4M x 16) Parallel 166 MHz  54-TFBGA (8x8) -6I : -40℃ - 80℃; MF: Winbond; Package: TFBGA-54; Price: None; Value: *
footprint TSOP-54
pins: 1 VDD (power), 2 DQ0 (io), 3 VDDQ (power), 4 DQ1 (io), 5 DQ2 (io), 6 VSSQ (power), 7 DQ3 (io), 8 DQ4 (io), 9 VDDQ (power), 10 DQ5 (io), 11 DQ6 (io), 12 VSSQ (power), 13 DQ7 (io), 14 VDD (power), 15 LDQM (in), 16 ~{WE} (in), 17 ~{CAS} (in), 18 ~{RAS} (in), 19 ~{CS} (in), 20 BS0 (in), 21 BS1 (in), 22 A10/AP (in), 23 A0 (in), 24 A1 (in), 25 A2 (in), 26 A3 (in), 27 VDD (power), 28 VSS (power), 29 A4 (in), 30 A5 (in), 31 A6 (in), 32 A7 (in), 33 A8 (in), 34 A9 (in), 35 A11 (in), 36 A12 (in), 37 CKE (in), 38 CLK (in), 39 UDQM (in), 40 NC, 41 VSS (power), 42 DQ8 (io), 43 VDDQ (power), 44 DQ9 (io), 45 DQ10 (io), 46 VSSQ (power), 47 DQ11 (io), 48 DQ12 (io), 49 VDDQ (power), 50 DQ13 (io), 51 DQ14 (io), 52 VSSQ (power), 53 DQ15 (io), 54 VSS (power)